# EAGLE library part 750343661 (library WE-OLTI)
WE-OLTI Offline Flyback Transformers Characteristics Nominal input voltage: 85–265 VAC (120–375 VDC) Small size Low leakage inductance Multiple-output options Operating temperature: −40 °C to +125 °C Isolation Voltage: 2 kVAC to 5 kVAC Options for fixed frequency or quasi-resonant mode operation Most products meet reinforced insulation Applications Industrial controls USB chargers Utility metering devices Process controls Factory automation Security systems Garage door opener auxiliary supplies Home appliances Especially designed for several ICs from Texas Instruments <https://www.we-online.com/components/media/o814034v209%20UtOLTI%20Group%20CGI.jpg> Details see: www.we-online.com/en/components/products/WE-OLTI <www.we-online.com/catalog/WE-OLTI/?utm_source=eagle_model&utm_medium=description_link&utm_campaign=eisos_eagle> Created by Ella Wu 2025-02-06 2025 (C) Wurth Elektronik
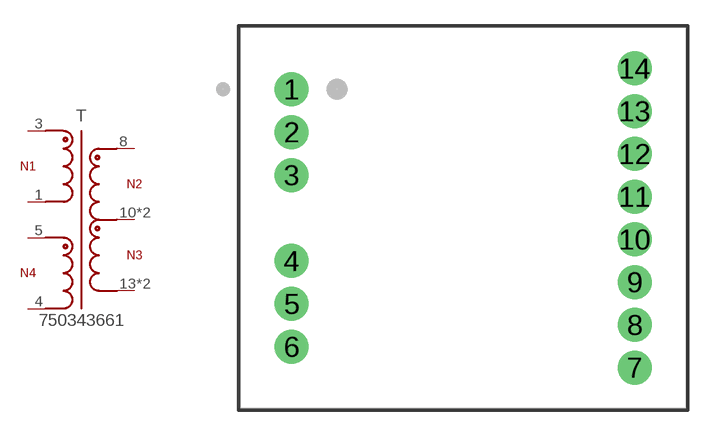
[diagram p12: symbol with the pads of WE-OLTI_EE20/10/6_L22.2W26H16.5; footprint WE-OLTI_EE20/10/6_L22.2W26H16.5]

Designator prefix T

## 750343661 (DATASHEET-URL: https://www.we-online.com/redexpert/spec/750343661?ae; FSWITCH: 85kHz; HEIGHT: 16mm; IOUT1: 250mA; IOUT2: 3000mA; ISAT: 6A; L: 500uH; LENGTH: 22.2mm; MOUNT: THT; N: 8:1.75:1:2.75; PART-NUMBER: 750343661; SIZE: EE20/10/6; VALUE: 500uH; VAUX: 15V; VIN: 71 - 301 V (AC); VOUT1: 15V; VOUT2: 5V; VT: 3000V(AC); WIDTH: 25mm)  [WE-OLTI_EE20/10/6_L22.2W26H16.5]
1  1  pas
3  3  pas
4  4  pas
5  5  pas
8  8  pas
10  10+11  pas
11  10+11  pas
13  13+14  pas
14  13+14  pas

## Footprint WE-OLTI_EE20/10/6_L22.2W26H16.5 (pad centres in mm)
WE-OLTI Offline Flyback Transformers Size:EE20/10/6,THT,14pins LXWXH=22.2X26X16mm Bobbin: 070-5643
drill 1.32: 1 -10,7.5; 2 -10,5; 3 -10,2.5; 4 -10,-2.5; 5 -10,-5; 6 -10,-7.5; 7 10,-8.715; 8 10,-6.225; 9 10,-3.735; 10 10,-1.245; 11 10,1.245; 12 10,3.735; 13 10,6.225; 14 10,8.715